# EAGLE library part AE-BMX055 (library 01)
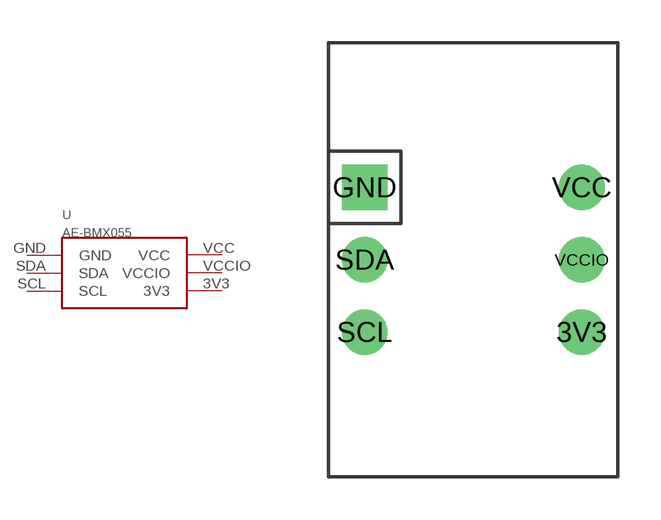
[diagram p5: symbol with the pads of AE-BMX055; footprint AE-BMX055]

Designator prefix U

## AE-BMX055  [AE-BMX055]
3V3  3V3
GND  GND
SCL  SCL
SDA  SDA
VCC  VCC
VCCIO  VCCIO

## Footprint AE-BMX055 (pad centres in mm)
drill 0.8 pad 1.6: 3V3 3.81,-2.54; SCL -3.81,-2.54; SDA -3.81,0; VCC 3.81,2.54; VCCIO 3.81,0
drill 0.8 pad 1.6 square: GND -3.81,2.54